# Altium integrated library Miscellaneous.IntLib: 5 symbols
Pins are listed as number, name and electrical type; pins without a type are passive.

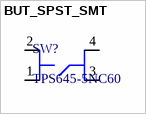
[diagram p0: symbol BUT_SPST_SMT]

## BUT_SPST_SMT
designator SW?, comment TPS645-5NC60
Tactile Switch/Push Button Switch ROHS
footprint TPS645-5NC60 (Tactile Switch/Push Button Switch ROHS)
pins: 1, 2, 3, 4


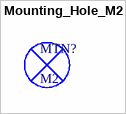
[diagram p1: symbol Mounting_Hole_M2]

## Mounting_Hole_M2
designator MTN?, comment M2
Mechanical Mounting Hole - M2


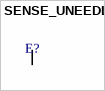
[diagram p2: symbol SENSE_UNEEDLE]

## SENSE_UNEEDLE
designator E?, comment 2.5 mm  (value not drawn)
Microneedle electrode - 2.5 mm diameter
footprint PCBComponent_1
pins: 1 E


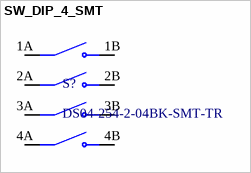
[diagram p3: symbol SW_DIP_4_SMT]

## SW_DIP_4_SMT
designator S?, comment DS04-254-2-04BK-SMT-TR
Dip Switch SPST 4 Position Surface Mount Slide (Standard) Actuator 25mA 24VDC; MF: Same Sky; SnapEDA_Link: https://www.snapeda.com/parts/DS04-254-2-04BK-SMT-TR/Same+Sky/view-part/?ref=snap; Package: None; Value: *; MP: DS04-254-2-04BK-SMT-TR; Check_prices: https://www.snapeda.com/parts/DS04-254-2-04BK-SMT-TR/Same+Sky/view-part/?ref=eda
footprint SW_DS04-254-2-04BK-SMT-TR
pins: 1A COM1, 1B NO1, 2A COM2, 2B NO2, 3A COM3, 3B NO3, 4A COM4, 4B NO4


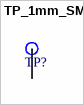
[diagram p4: symbol TP_1mm_SMT]

## TP_1mm_SMT
designator TP?, comment 1mm  (value not drawn)  (no BOM)
Test Point Pad 1 mm round
footprint Test_Point_1mm (Test Point SMT 1mm Round)
pins: 1